# Altium footprint library NET_TIE_2_1mm.PcbLib: 1 footprints
Each footprint in its own frame and in the unit in brackets; x right, y up, seen from the top. Pads: shape width x height; smd on the part's side, far side on the other; paste and mask are expansions set on the pad; w line width, h text height; cw(c..) or ccw(c..) is an arc to the next point about the centre after c.
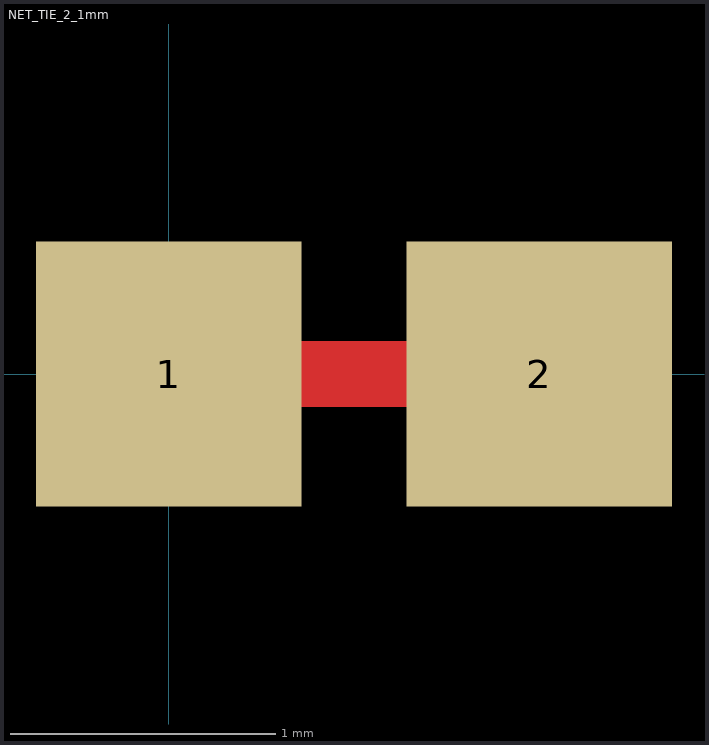
[diagram p0: the footprint, top view; thin cyan lines are the x and y axes]

## NET_TIE_2_1mm [mil]
pads (2):
  rect 39.36x39.36 smd paste-39330.7 mask-39330.7: 1(0,0) 2(55,0)
Top Layer:
  lines w9.84: 19,0 36,0